# Altium integrated library OPL_Inductor.IntLib: 7 symbols
Pins are listed as number, name and electrical type; pins without a type are passive.

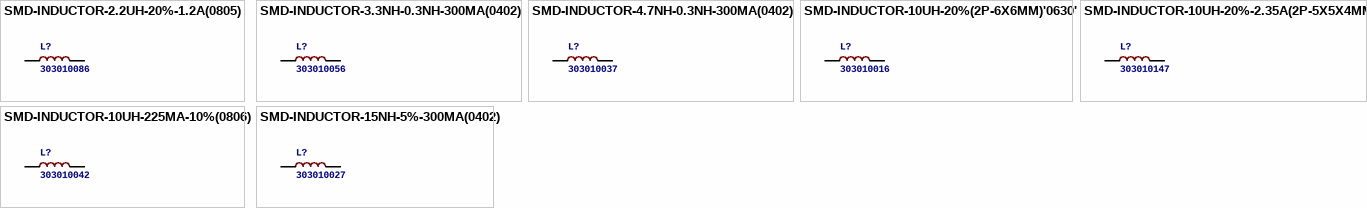
[diagram p0: symbols SMD-INDUCTOR-2.2UH-20%-1.2A(0805) to SMD-INDUCTOR-15NH-5%-300MA(0402)]

## SMD-INDUCTOR-2.2UH-20%-1.2A(0805)
designator L?, comment 303010086
MPN: LQM2MPN2R2MG0
footprint L0805
pins: 1, 2

## SMD-INDUCTOR-3.3NH-0.3NH-300MA(0402)
designator L?, comment 303010056
footprint L0402
pins: 1, 2

## SMD-INDUCTOR-4.7NH-0.3NH-300MA(0402)
designator L?, comment 303010037
MPN: LQG15HS4N7S02
footprint L0402
pins: 1, 2

## SMD-INDUCTOR-10UH-20%(2P-6X6MM)'0630'
designator L?, comment 303010016
MPN: CSAB0630-100M
footprint SMD-2P-L6.0XW6.0XH3.0MM
pins: 1, 2

## SMD-INDUCTOR-10UH-20%-2.35A(2P-5X5X4MM)
designator L?, comment 303010147
footprint L5040S
pins: 1, 2

## SMD-INDUCTOR-10UH-225MA-10%(0806)
designator L?, comment 303010042
MPN: LQH2MCN100K02L
footprint L0806
pins: 1, 2

## SMD-INDUCTOR-15NH-5%-300MA(0402)
designator L?, comment 303010027
MPN: LQG15HS15NJ02
footprint L0402
pins: 1, 2